# EAGLE library part 87264-50_S (library con-molex-milli-grid)
RECEPTACAL
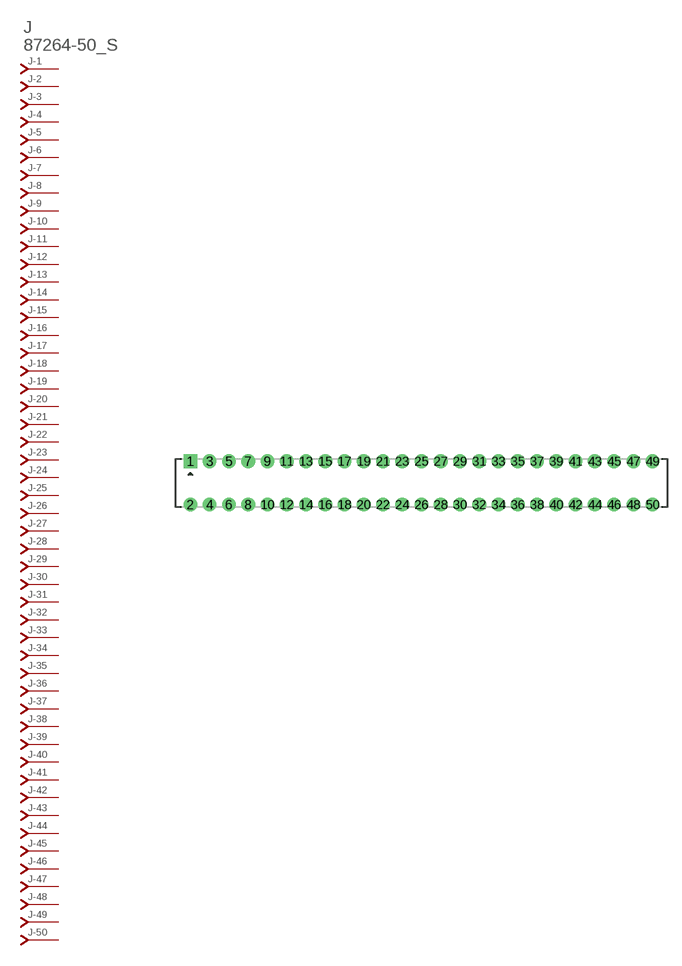
[diagram p304: symbol with the pads of 87264-50; footprint 87264-50]

Designator prefix J; gates -1=J-NV -2=J-N -3=J-N -4=J-N -5=J-N -6=J-N -7=J-N -8=J-N -9=J-N -10=J-N -11=J-N -12=J-N -13=J-N -14=J-N -15=J-N -16=J-N -17=J-N -18=J-N -19=J-N -20=J-N -21=J-N -22=J-N -23=J-N -24=J-N -25=J-N -26=J-N -27=J-N -28=J-N -29=J-N -30=J-N -31=J-N -32=J-N -33=J-N -34=J-N -35=J-N -36=J-N -37=J-N -38=J-N -39=J-N -40=J-N -41=J-N -42=J-N -43=J-N -44=J-N -45=J-N -46=J-N -47=J-N -48=J-N -49=J-N -50=J-N

## 87264-50_S  [87264-50]
1  -1:J  pas
2  -2:J  pas
3  -3:J  pas
4  -4:J  pas
5  -5:J  pas
6  -6:J  pas
7  -7:J  pas
8  -8:J  pas
9  -9:J  pas
10  -10:J  pas
11  -11:J  pas
12  -12:J  pas
13  -13:J  pas
14  -14:J  pas
15  -15:J  pas
16  -16:J  pas
17  -17:J  pas
18  -18:J  pas
19  -19:J  pas
20  -20:J  pas
21  -21:J  pas
22  -22:J  pas
23  -23:J  pas
24  -24:J  pas
25  -25:J  pas
26  -26:J  pas
27  -27:J  pas
28  -28:J  pas
29  -29:J  pas
30  -30:J  pas
31  -31:J  pas
32  -32:J  pas
33  -33:J  pas
34  -34:J  pas
35  -35:J  pas
36  -36:J  pas
37  -37:J  pas
38  -38:J  pas
39  -39:J  pas
40  -40:J  pas
41  -41:J  pas
42  -42:J  pas
43  -43:J  pas
44  -44:J  pas
45  -45:J  pas
46  -46:J  pas
47  -47:J  pas
48  -48:J  pas
49  -49:J  pas
50  -50:J  pas

## Footprint 87264-50 (pad centres in mm)
RECEPTACAL Dual Row, Side Entry
drill 0.914 square: 1 -24,2.25
drill 0.914: 2 -24,-2.25; 3 -22,2.25; 4 -22,-2.25; 5 -20,2.25; 6 -20,-2.25; 7 -18,2.25; 8 -18,-2.25; 9 -16,2.25; 10 -16,-2.25; 11 -14,2.25; 12 -14,-2.25; 13 -12,2.25; 14 -12,-2.25; 15 -10,2.25; 16 -10,-2.25; 17 -8,2.25; 18 -8,-2.25; 19 -6,2.25; 20 -6,-2.25; 21 -4,2.25; 22 -4,-2.25; 23 -2,2.25; 24 -2,-2.25; 25 0,2.25; 26 0,-2.25; 27 2,2.25; 28 2,-2.25; 29 4,2.25; 30 4,-2.25; 31 6,2.25; 32 6,-2.25; 33 8,2.25; 34 8,-2.25; 35 10,2.25; 36 10,-2.25; 37 12,2.25; 38 12,-2.25; 39 14,2.25; 40 14,-2.25; 41 16,2.25; 42 16,-2.25; 43 18,2.25; 44 18,-2.25; 45 20,2.25; 46 20,-2.25; 47 22,2.25; 48 22,-2.25; 49 24,2.25; 50 24,-2.25